# EAGLE library part 418311270805 (library Wurth_Elektronik_Electromechanic_Switch_rev15d)
WS-PT 2.54 mm piano type compact SMD Dip Switch with raised actuator, 5 Pole
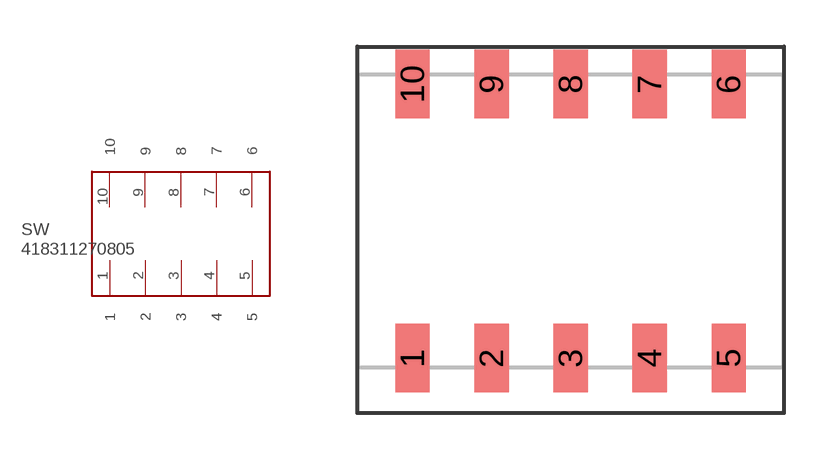
[diagram p120: symbol with the pads of 418311270805; footprint 418311270805]

Designator prefix SW

## 418311270805  [418311270805]
1  1
2  2
3  3
4  4
5  5
6  6
7  7
8  8
9  9
10  10

## Footprint 418311270805 (pad centres in mm)
WS-PT 2.54 mm piano type compact SMD Dip Switch with raised actuator, 5 Pole
smd 1.1 x 2.2: 1 -5.08,-4.4; 2 -2.54,-4.4; 3 0,-4.4; 4 2.54,-4.4; 5 5.08,-4.4; 6 5.08,4.4; 7 2.54,4.4; 8 0,4.4; 9 -2.54,4.4; 10 -5.08,4.4